# Altium footprint library rt9400.PcbLib: 1 footprints
Each footprint in its own frame and in the unit in brackets; x right, y up, seen from the top. Pads: shape width x height; smd on the part's side, far side on the other; paste and mask are expansions set on the pad; w line width, h text height; cw(c..) or ccw(c..) is an arc to the next point about the centre after c.
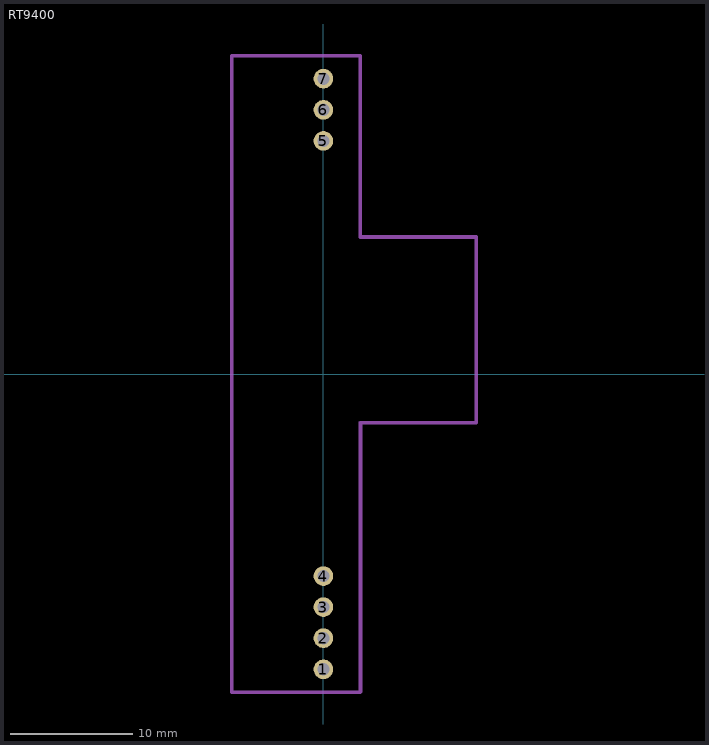
[diagram p0: the footprint, top view; thin cyan lines are the x and y axes]

## RT9400 [mm]
pads (7):
  round 1.6 hole 1: 1(0,-24.13) 2(0,-21.59) 3(0,-19.05) 4(0,-16.51) 5(0,19.05) 6(0,21.59) 7(0,24.13)
Mechanical 15:
  lines w0.3: 3,-26 -7.5,-26 -7.5,26 3,26 3,11.2 12.5,11.2 12.5,-3.974 3.026,-3.974 ; 3,-4 3.026,-3.974 ; 3.026,-25.974 3.026,-3.974
3D body: height 14, standoff 0, extent -7.5,-26 12.5,26